# EAGLE library part SL07 (library MRDT-Connectors)
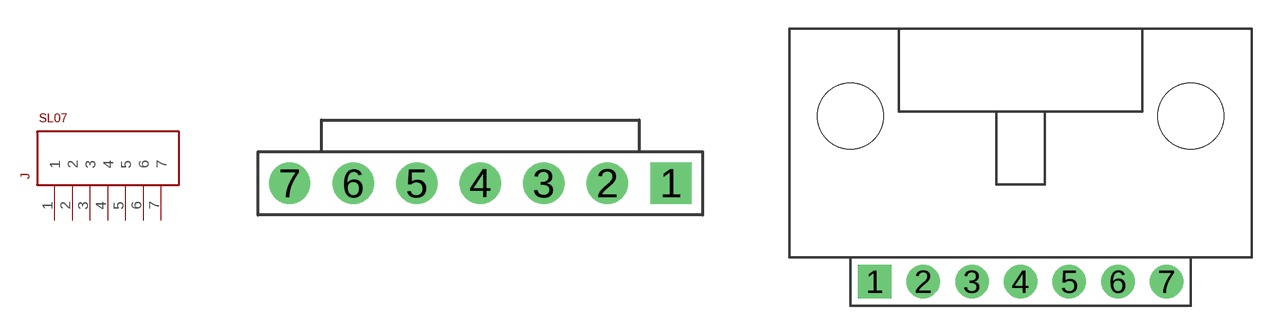
[diagram p8: symbol with the pads of MOLEX-70543-0006; footprints MOLEX-70543-0006, MOLEX-70551-0006]

Designator prefix J

## SL07  [MOLEX-70543-0006]
1  1
2  2
3  3
4  4
5  5
6  6
7  7

## SL07-HORIZ  [MOLEX-70551-0006]
Pads as for MOLEX-70543-0006

## Footprint MOLEX-70543-0006 (pad centres in mm)
drill 1.1 square: 1 7.62,0
drill 1.1: 2 5.08,0; 3 2.54,0; 4 0,0; 5 -2.54,0; 6 -5.08,0; 7 -7.62,0

## Footprint MOLEX-70551-0006 (pad centres in mm)
drill 1.168 square: 1 -7.62,0
drill 1.168: 2 -5.08,0; 3 -2.54,0; 4 0,0; 5 2.54,0; 6 5.08,0; 7 7.62,0
hole 3.454 at -8.89,8.636
hole 3.454 at 8.89,8.636